# Altium schematic symbol library Schlib1.SchLib: 1 symbol
Pins are listed as number, name and electrical type; pins without a type are passive.

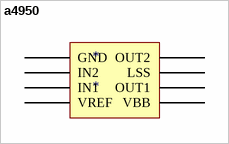
[diagram p0: symbol a4950]

## a4950
designator *
pins: GND, IN1, IN2, LSS, OUT1, OUT2, VBB, VREF